# EAGLE library part EFM32ZG110 (library BaseApp)
Disikey Number :- __336-2578-1-ND__
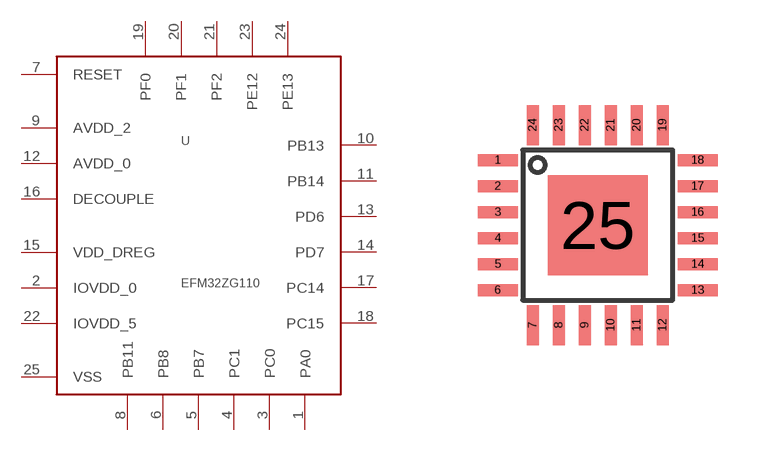
[diagram p128: symbol with the pads of QFN24; footprint QFN24]

Designator prefix -

## EFM32ZG110  [QFN24]
1  PA0
2  IOVDD_0
3  PC0
4  PC1
5  PB7
6  PB8
7  RESET
8  PB11
9  AVDD_2
10  PB13
11  PB14
12  AVDD_0
13  PD6
14  PD7
15  VDD_DREG
16  DECOUPLE
17  PC14
18  PC15
19  PF0
20  PF1
21  PF2
22  IOVDD_5
23  PE12
24  PE13
25  VSS

## Footprint QFN24 (pad centres in mm)
smd 1 x 0.3: 1 -2.5,1.625; 2 -2.5,0.975; 3 -2.5,0.325; 4 -2.5,-0.325; 5 -2.5,-0.975; 6 -2.5,-1.625; 13 2.5,-1.625; 14 2.5,-0.975; 15 2.5,-0.325; 16 2.5,0.325; 17 2.5,0.975; 18 2.5,1.625
smd 0.3 x 1: 7 -1.625,-2.5; 8 -0.975,-2.5; 9 -0.325,-2.5; 10 0.325,-2.5; 11 0.975,-2.5; 12 1.625,-2.5; 19 1.625,2.5; 20 0.975,2.5; 21 0.325,2.5; 22 -0.325,2.5; 23 -0.975,2.5; 24 -1.625,2.5
smd 2.5 x 2.5: 25 0,0